# Altium footprint library Fuse_Through_Hole.PcbLib: 1 footprints
Each footprint in its own frame and in the unit in brackets; x right, y up, seen from the top. Pads: shape width x height; smd on the part's side, far side on the other; paste and mask are expansions set on the pad; w line width, h text height; cw(c..) or ccw(c..) is an arc to the next point about the centre after c.
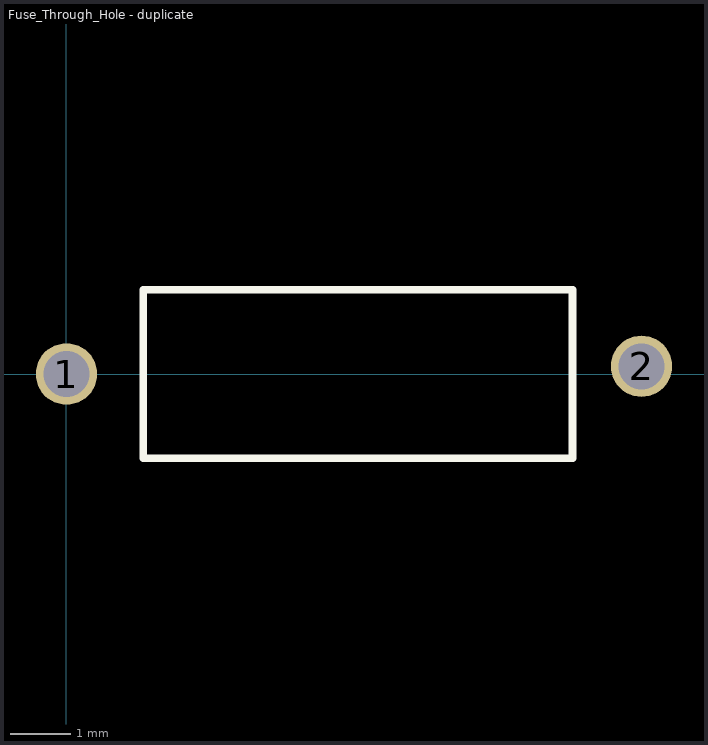
[diagram p0: the footprint, top view; thin cyan lines are the x and y axes]

## Fuse_Through_Hole - duplicate [mil]
pads (2):
  round 40 hole 30: 1(0,0) 2(375,5)
Top Overlay:
  lines w5: 50,-55 330,-55 330,55 50,55 50,-55